# Altium integrated library ECS-080-18-20BM-JEN-TR.IntLib: 1 symbol
Pins are listed as number, name and electrical type; pins without a type are passive.

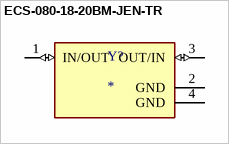
[diagram p0: symbol ECS-080-18-20BM-JEN-TR]

## ECS-080-18-20BM-JEN-TR
designator Y?
8 MHz Â±20ppm Crystal 18pF 60 Ohms 4-SMD, No Lead; MF: ECS Inc.; MP: ECS-080-18-20BM-JEN-TR; SnapEDA_Link: https://www.snapeda.com/parts/ECS-080-18-20BM-JEN-TR/ECS/view-part/?ref=snap; Package: CSM-8M-20BM-4 ECS; Value: *; Check_prices: https://www.snapeda.com/parts/ECS-080-18-20BM-JEN-TR/ECS/view-part/?ref=eda
footprint ECS_ECS-060-18-20BM-JEN-TR
pins: 1 IN/OUT (io), 2 GND (power), 3 OUT/IN (io), 4 GND (power)